# EAGLE library part MAX2837ETM+ (library muccc)
MAX2837 2.3 to 2.7 GHz TRX
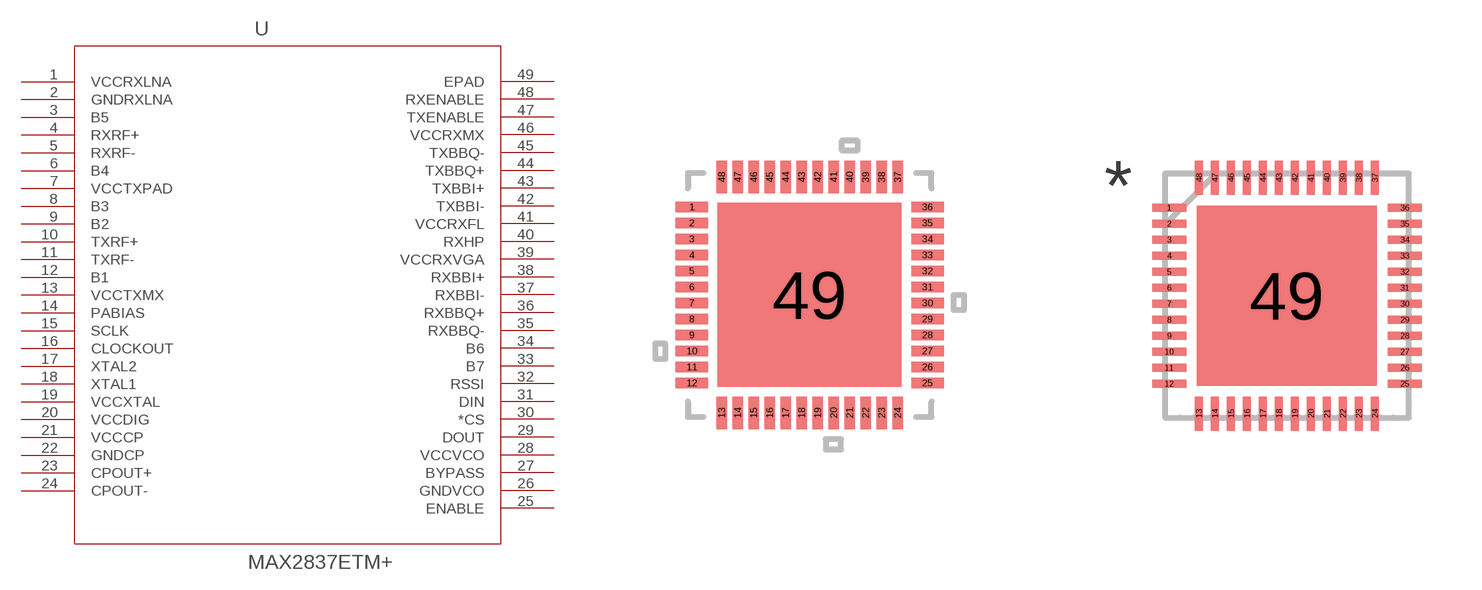
[diagram p2: symbol with the pads of 21-0141I_T4866-2; footprints 21-0141I_T4866-2, 21-0141I_T4866-2-CCC]

Designator prefix U

## MAX2837ETM+ (MANUFACTURER_PART_NUMBER: max2837etm+; VENDOR: MAXIM)  [21-0141I_T4866-2]
1  VCCRXLNA  pwr
2  GNDRXLNA  pwr
3  B5  pas
4  RXRF+  pas
5  RXRF-  pas
6  B4  pas
7  VCCTXPAD  pwr
8  B3  pas
9  B2  pas
10  TXRF+  pas
11  TXRF-  pas
12  B1  pas
13  VCCTXMX  pwr
14  PABIAS  pas
15  SCLK  pas
16  CLOCKOUT  out
17  XTAL2  pas
18  XTAL1  pas
19  VCCXTAL  pwr
20  VCCDIG  pwr
21  VCCCP  pwr
22  GNDCP  pwr
23  CPOUT+  out
24  CPOUT-  out
25  ENABLE  pas
26  GNDVCO  pwr
27  BYPASS  pas
28  VCCVCO  pwr
29  DOUT  out
30  *CS  pas
31  DIN  in
32  RSSI  pas
33  B7  pas
34  B6  pas
35  RXBBQ-  pas
36  RXBBQ+  pas
37  RXBBI-  pas
38  RXBBI+  pas
39  VCCRXVGA  pwr
40  RXHP  pas
41  VCCRXFL  pwr
42  TXBBI-  pas
43  TXBBI+  pas
44  TXBBQ+  pas
45  TXBBQ-  pas
46  VCCRXMX  pwr
47  TXENABLE  pas
48  RXENABLE  pas
49  EPAD  pas

## MAX2837ETM+CCC  [21-0141I_T4866-2-CCC]
Pads as for 21-0141I_T4866-2

## Footprint 21-0141I_T4866-2 (pad centres in mm)
smd 0.813 x 0.254: 1 -2.946,2.2; 2 -2.946,1.8; 3 -2.946,1.4; 4 -2.946,1; 5 -2.946,0.6; 6 -2.946,0.2; 7 -2.946,-0.2; 8 -2.946,-0.6; 9 -2.946,-1; 10 -2.946,-1.4; 11 -2.946,-1.8; 12 -2.946,-2.2; 25 2.946,-2.2; 26 2.946,-1.8; 27 2.946,-1.4; 28 2.946,-1; 29 2.946,-0.6; 30 2.946,-0.2; 31 2.946,0.2; 32 2.946,0.6; 33 2.946,1; 34 2.946,1.4; 35 2.946,1.8; 36 2.946,2.2
smd 0.254 x 0.813: 13 -2.2,-2.946; 14 -1.8,-2.946; 15 -1.4,-2.946; 16 -1,-2.946; 17 -0.6,-2.946; 18 -0.2,-2.946; 19 0.2,-2.946; 20 0.6,-2.946; 21 1,-2.946; 22 1.4,-2.946; 23 1.8,-2.946; 24 2.2,-2.946; 37 2.2,2.946; 38 1.8,2.946; 39 1.4,2.946; 40 1,2.946; 41 0.6,2.946; 42 0.2,2.946; 43 -0.2,2.946; 44 -0.6,2.946; 45 -1,2.946; 46 -1.4,2.946; 47 -1.8,2.946; 48 -2.2,2.946
smd 4.597 x 4.597: 49 0,0

## Footprint 21-0141I_T4866-2-CCC (pad centres in mm)
smd 0.85 x 0.2: 1 -2.946,2.2; 2 -2.946,1.8; 3 -2.946,1.4; 4 -2.946,1; 5 -2.946,0.6; 6 -2.946,0.2; 7 -2.946,-0.2; 8 -2.946,-0.6; 9 -2.946,-1; 10 -2.946,-1.4; 11 -2.946,-1.8; 12 -2.946,-2.2; 25 2.946,-2.2; 26 2.946,-1.8; 27 2.946,-1.4; 28 2.946,-1; 29 2.946,-0.6; 30 2.946,-0.2; 31 2.946,0.2; 32 2.946,0.6; 33 2.946,1; 34 2.946,1.4; 35 2.946,1.8; 36 2.946,2.2
smd 0.2 x 0.85: 13 -2.2,-2.946; 14 -1.8,-2.946; 15 -1.4,-2.946; 16 -1,-2.946; 17 -0.6,-2.946; 18 -0.2,-2.946; 19 0.2,-2.946; 20 0.6,-2.946; 21 1,-2.946; 22 1.4,-2.946; 23 1.8,-2.946; 24 2.2,-2.946; 37 2.2,2.946; 38 1.8,2.946; 39 1.4,2.946; 40 1,2.946; 41 0.6,2.946; 42 0.2,2.946; 43 -0.2,2.946; 44 -0.6,2.946; 45 -1,2.946; 46 -1.4,2.946; 47 -1.8,2.946; 48 -2.2,2.946
smd 4.5 x 4.5: 49 0,0